# Altium schematic symbol library Schlib1.SchLib: 2 symbols
Pins are listed as number, name and electrical type; pins without a type are passive.

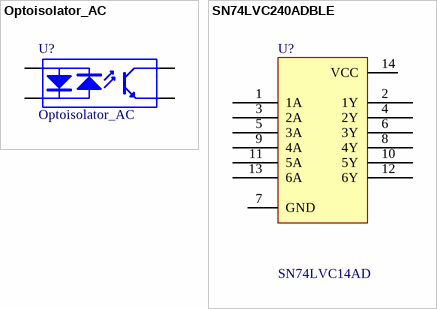
[diagram p0: symbols Optoisolator_AC to SN74LVC240ADBLE]

## Optoisolator_AC
designator U?
4-Pin Phototransistor Optocoupler; HelpURL: http://www.cel.com/pdf/datasheets/ps2705a1.pdf
pins: 1 A "Anode", 2 K "Cathode", 3 E "Emitter", 4 C "Collector"

## SN74LVC240ADBLE
designator U?, comment SN74LVC14AD
SNx4LVC14A Hex Schmitt-Trigger Inverters; Mfg: TI; Mfg P/N: SN74LVC14AD; HelpURL: http://www.ti.com.cn/cn/lit/ds/symlink/sn74lvc14a.pdf
footprint SOIC-14 (Footprint not found)
pins: 1 1A, 2 1Y, 3 2A, 4 2Y, 5 3A, 6 3Y, 7 GND (power), 8 4Y, 9 4A, 10 5Y, 11 5A, 12 6Y, 13 6A, 14 VCC (power)